# Altium footprint library Footprint.PcbLib: 97 footprints (part 3 of 7)
Each footprint in its own frame and in the unit in brackets; x right, y up, seen from the top. Pads: shape width x height; smd on the part's side, far side on the other; paste and mask are expansions set on the pad; w line width, h text height; cw(c..) or ccw(c..) is an arc to the next point about the centre after c.
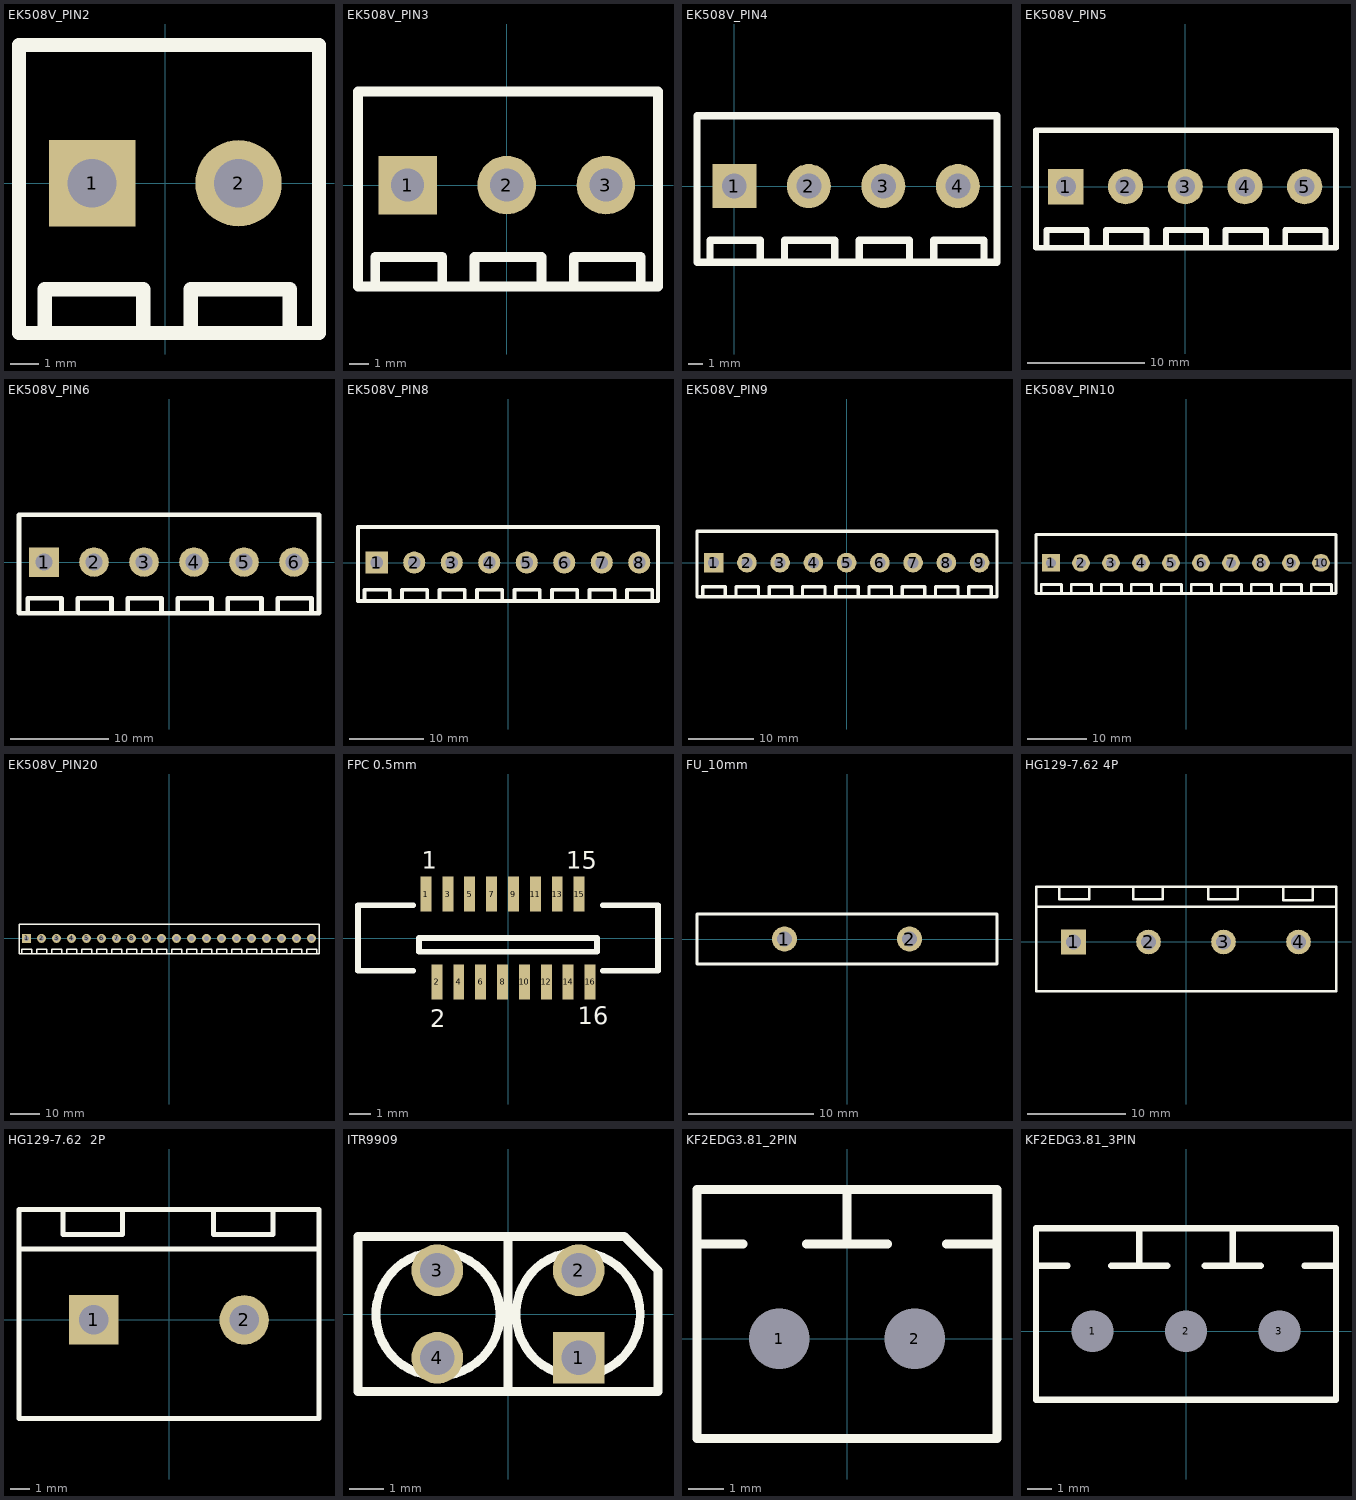
[diagram p2: the footprints below, top view; thin cyan lines are the x and y axes]

## EK508V_PIN2 [mm]
pads (2):
  rect 3x3 hole 1.7: 1(-2.54,0)
  round 3 hole 1.7: 2(2.54,0)
Top Overlay:
  lines w0.5: -4.191,-5.2 -4.191,-3.683 -0.762,-3.683 -0.762,-5.2 ; 0.889,-3.683 4.318,-3.683 ; 0.889,-3.683 0.889,-5.2 0.889,-3.683 ; 0.889,-3.683 4.318,-3.683 ; 4.318,-3.683 4.318,-5.2 4.318,-3.683 ; -5.08,-5.2 -5.08,4.8 5.334,4.8 5.334,-5.2 -5.08,-5.2

## EK508V_PIN3 [mm]
pads (3):
  rect 3x3 hole 1.7: 1(-5.08,0)
  round 3 hole 1.7: 2(0,0) 3(5.08,0)
Top Overlay:
  lines w0.5: -6.731,-5.2 -6.731,-3.683 -3.302,-3.683 -3.302,-5.2 ; -1.651,-3.683 -1.651,-5.2 -1.651,-3.683 ; -1.651,-3.683 1.778,-3.683 ; -1.651,-3.683 1.778,-3.683 ; 1.778,-3.683 1.778,-5.2 1.778,-3.683 ; 3.429,-3.683 3.429,-5.2 3.429,-3.683 ; 3.429,-3.683 6.858,-3.683 ; 3.429,-3.683 6.858,-3.683 ; 6.858,-3.683 6.858,-5.2 6.858,-3.683 ; -7.62,-5.2 7.747,-5.2 7.747,4.8 -7.62,4.8 -7.62,-5.2

## EK508V_PIN4 [mm]
pads (4):
  rect 3x3 hole 1.7: 1(0,0)
  round 3 hole 1.7: 2(5.08,0) 3(10.16,0) 4(15.24,0)
Top Overlay:
  lines w0.5: -1.651,-5.2 -1.651,-3.683 1.778,-3.683 1.778,-5.2 ; 3.429,-3.683 3.429,-5.2 3.429,-3.683 ; 3.429,-3.683 6.858,-3.683 ; 3.429,-3.683 6.858,-3.683 ; 6.858,-3.683 6.858,-5.2 6.858,-3.683 ; 8.509,-3.683 8.509,-5.2 8.509,-3.683 ; 8.509,-3.683 11.938,-3.683 ; 8.509,-3.683 11.938,-3.683 ; 11.938,-3.683 11.938,-5.2 11.938,-3.683 ; 13.589,-3.683 17.018,-3.683 ; 13.589,-3.683 13.589,-5.2 13.589,-3.683 ; 13.589,-3.683 17.018,-3.683 ; 17.018,-3.683 17.018,-5.2 17.018,-3.683 ; -2.54,-5.2 17.907,-5.2 17.907,4.8 -2.54,4.8 -2.54,-5.2

## EK508V_PIN5 [mm]
pads (5):
  rect 3x3 hole 1.7: 1(-10.16,0)
  round 3 hole 1.7: 2(-5.08,0) 3(0,0) 4(5.08,0) 5(10.16,0)
Top Overlay:
  lines w0.5: -11.811,-5.2 -11.811,-3.683 -8.382,-3.683 -8.382,-5.2 ; -6.731,-3.683 -3.302,-3.683 ; -6.731,-3.683 -6.731,-5.2 -6.731,-3.683 ; -6.731,-3.683 -3.302,-3.683 ; -3.302,-3.683 -3.302,-5.2 -3.302,-3.683 ; -1.651,-3.683 -1.651,-5.2 -1.651,-3.683 ; -1.651,-3.683 1.778,-3.683 ; -1.651,-3.683 1.778,-3.683 ; 1.778,-3.683 1.778,-5.2 1.778,-3.683 ; 3.429,-3.683 3.429,-5.2 3.429,-3.683 ; 3.429,-3.683 6.858,-3.683 ; 3.429,-3.683 6.858,-3.683 ; 6.858,-3.683 6.858,-5.2 6.858,-3.683 ; 8.509,-3.683 11.938,-3.683 ; 8.509,-3.683 8.509,-5.2 8.509,-3.683 ; 8.509,-3.683 11.938,-3.683 ; 11.938,-3.683 11.938,-5.2 11.938,-3.683 ; -12.7,-5.2 -12.7,4.8 12.827,4.8 12.827,-5.2 -12.7,-5.2

## EK508V_PIN6 [mm]
pads (6):
  rect 3x3 hole 1.7: 1(-12.7,0)
  round 3 hole 1.7: 2(-7.62,0) 3(-2.54,0) 4(2.54,0) 5(7.62,0) 6(12.7,0)
Top Overlay:
  lines w0.5: -14.351,-5.2 -14.351,-3.683 -10.922,-3.683 -10.922,-5.2 ; -9.271,-3.683 -5.842,-3.683 ; -9.271,-3.683 -9.271,-5.2 -9.271,-3.683 ; -9.271,-3.683 -5.842,-3.683 ; -5.842,-3.683 -5.842,-5.2 -5.842,-3.683 ; -4.191,-3.683 -4.191,-5.2 -4.191,-3.683 ; -4.191,-3.683 -0.762,-3.683 ; -4.191,-3.683 -0.762,-3.683 ; -0.762,-3.683 -0.762,-5.2 -0.762,-3.683 ; 0.889,-3.683 0.889,-5.2 0.889,-3.683 ; 0.889,-3.683 4.318,-3.683 ; 0.889,-3.683 4.318,-3.683 ; 4.318,-3.683 4.318,-5.2 4.318,-3.683 ; 5.969,-3.683 9.398,-3.683 ; 5.969,-3.683 5.969,-5.2 5.969,-3.683 ; 5.969,-3.683 9.398,-3.683 ; 9.398,-3.683 9.398,-5.2 9.398,-3.683 ; 11.049,-3.683 11.049,-5.2 11.049,-3.683 ; 11.049,-3.683 14.478,-3.683 ; 11.049,-3.683 14.478,-3.683 ; 14.478,-3.683 14.478,-5.2 14.478,-3.683 ; -15.24,-5.2 -15.24,4.8 15.24,4.8 15.24,-5.2 -15.24,-5.2

## EK508V_PIN8 [mm]
pads (8):
  rect 3x3 hole 1.7: 1(-17.78,0)
  round 3 hole 1.7: 2(-12.7,0) 3(-7.62,0) 4(-2.54,0) 5(2.54,0) 6(7.62,0) 7(12.7,0) 8(17.78,0)
Top Overlay:
  lines w0.5: -19.431,-5.2 -19.431,-3.683 -16.002,-3.683 -16.002,-5.2 ; -14.351,-3.683 -14.351,-5.2 -14.351,-3.683 ; -14.351,-3.683 -10.922,-3.683 ; -14.351,-3.683 -10.922,-3.683 ; -10.922,-3.683 -10.922,-5.2 -10.922,-3.683 ; -9.271,-3.683 -9.271,-5.2 -9.271,-3.683 ; -9.271,-3.683 -5.842,-3.683 ; -9.271,-3.683 -5.842,-3.683 ; -5.842,-3.683 -5.842,-5.2 -5.842,-3.683 ; -4.191,-3.683 -0.762,-3.683 ; -4.191,-3.683 -4.191,-5.2 -4.191,-3.683 ; -4.191,-3.683 -0.762,-3.683 ; -0.762,-3.683 -0.762,-5.2 -0.762,-3.683 ; 0.889,-3.683 0.889,-5.2 0.889,-3.683 ; 0.889,-3.683 4.318,-3.683 ; 0.889,-3.683 4.318,-3.683 ; 4.318,-3.683 4.318,-5.2 4.318,-3.683 ; 5.969,-3.683 9.398,-3.683 ; 5.969,-3.683 5.969,-5.2 5.969,-3.683 ; 5.969,-3.683 9.398,-3.683 ; 9.398,-3.683 9.398,-5.2 9.398,-3.683 ; 11.049,-3.683 11.049,-5.2 11.049,-3.683 ; 11.049,-3.683 14.478,-3.683 ; 11.049,-3.683 14.478,-3.683 ; 14.478,-3.683 14.478,-5.2 14.478,-3.683 ; 16.129,-3.683 16.129,-5.2 16.129,-3.683 ; 16.129,-3.683 19.558,-3.683 ; 16.129,-3.683 19.558,-3.683 ; 19.558,-3.683 19.558,-5.2 19.558,-3.683 ; -20.32,-5.2 20.32,-5.2 20.32,4.8 -20.32,4.8 -20.32,-5.2

## EK508V_PIN9 [mm]
pads (9):
  rect 3x3 hole 1.7: 1(-20.32,0)
  round 3 hole 1.7: 2(-15.24,0) 3(-10.16,0) 4(-5.08,0) 5(0,0) 6(5.08,0) 7(10.16,0) 8(15.24,0) 9(20.32,0)
Top Overlay:
  lines w0.5: -21.971,-5.2 -21.971,-3.683 -18.542,-3.683 -18.542,-5.2 ; -16.891,-3.683 -13.462,-3.683 ; -16.891,-3.683 -16.891,-5.2 -16.891,-3.683 ; -16.891,-3.683 -13.462,-3.683 ; -13.462,-3.683 -13.462,-5.2 -13.462,-3.683 ; -11.811,-3.683 -11.811,-5.2 -11.811,-3.683 ; -11.811,-3.683 -8.382,-3.683 ; -11.811,-3.683 -8.382,-3.683 ; -8.382,-3.683 -8.382,-5.2 -8.382,-3.683 ; -6.731,-3.683 -6.731,-5.2 -6.731,-3.683 ; -6.731,-3.683 -3.302,-3.683 ; -6.731,-3.683 -3.302,-3.683 ; -3.302,-3.683 -3.302,-5.2 -3.302,-3.683 ; -1.651,-3.683 1.778,-3.683 ; -1.651,-3.683 -1.651,-5.2 -1.651,-3.683 ; -1.651,-3.683 1.778,-3.683 ; 1.778,-3.683 1.778,-5.2 1.778,-3.683 ; 3.429,-3.683 3.429,-5.2 3.429,-3.683 ; 3.429,-3.683 6.858,-3.683 ; 3.429,-3.683 6.858,-3.683 ; 6.858,-3.683 6.858,-5.2 6.858,-3.683 ; 8.509,-3.683 8.509,-5.2 8.509,-3.683 ; 8.509,-3.683 11.938,-3.683 ; 8.509,-3.683 11.938,-3.683 ; 11.938,-3.683 11.938,-5.2 11.938,-3.683 ; 13.589,-5.2 13.589,-3.683 ; 13.589,-5.2 13.589,-3.683 ; 13.589,-5.2 13.589,-3.683 ; 13.589,-5.2 13.589,-3.683 ; 13.589,-3.683 17.018,-3.683 ; 13.589,-3.683 17.018,-3.683 ; 13.589,-3.683 17.018,-3.683 ; 13.589,-3.683 17.018,-3.683 ; 17.018,-5.2 17.018,-3.683 ; 17.018,-5.2 17.018,-3.683 ; 17.018,-5.2 17.018,-3.683 ; 17.018,-5.2 17.018,-3.683 ; 18.669,-3.683 18.669,-5.2 18.669,-3.683 ; 18.669,-3.683 22.098,-3.683 ; 18.669,-3.683 22.098,-3.683 ; 22.098,-3.683 22.098,-5.2 22.098,-3.683 ; -22.86,-5.2 -22.86,4.8 22.987,4.8 22.987,-5.2 -22.86,-5.2

## EK508V_PIN10 [mm]
pads (10):
  rect 3x3 hole 1.7: 1(-22.86,0)
  round 3 hole 1.7: 2(-17.78,0) 3(-12.7,0) 4(-7.62,0) 5(-2.54,0) 6(2.54,0) 7(7.62,0) 8(12.7,0) 9(17.78,0) 10(22.86,0)
Top Overlay:
  lines w0.5: -24.511,-5.2 -24.511,-3.683 -21.082,-3.683 -21.082,-5.2 ; -19.431,-3.683 -19.431,-5.2 -19.431,-3.683 ; -19.431,-3.683 -16.002,-3.683 ; -19.431,-3.683 -16.002,-3.683 ; -16.002,-3.683 -16.002,-5.2 -16.002,-3.683 ; -14.351,-3.683 -14.351,-5.2 -14.351,-3.683 ; -14.351,-3.683 -10.922,-3.683 ; -14.351,-3.683 -10.922,-3.683 ; -10.922,-3.683 -10.922,-5.2 -10.922,-3.683 ; -9.271,-3.683 -5.842,-3.683 ; -9.271,-3.683 -9.271,-5.2 -9.271,-3.683 ; -9.271,-3.683 -5.842,-3.683 ; -5.842,-3.683 -5.842,-5.2 -5.842,-3.683 ; -4.191,-3.683 -4.191,-5.2 -4.191,-3.683 ; -4.191,-3.683 -0.762,-3.683 ; -4.191,-3.683 -0.762,-3.683 ; -0.762,-3.683 -0.762,-5.2 -0.762,-3.683 ; 0.889,-3.683 4.318,-3.683 ; 0.889,-3.683 0.889,-5.2 0.889,-3.683 ; 0.889,-3.683 4.318,-3.683 ; 4.318,-3.683 4.318,-5.2 4.318,-3.683 ; 5.969,-3.683 5.969,-5.2 5.969,-3.683 ; 5.969,-3.683 9.398,-3.683 ; 5.969,-3.683 9.398,-3.683 ; 9.398,-3.683 9.398,-5.2 9.398,-3.683 ; 11.049,-5.2 11.049,-3.683 ; 11.049,-5.2 11.049,-3.683 ; 11.049,-5.2 11.049,-3.683 ; 11.049,-5.2 11.049,-3.683 ; 11.049,-3.683 14.478,-3.683 ; 11.049,-3.683 14.478,-3.683 ; 11.049,-3.683 14.478,-3.683 ; 11.049,-3.683 14.478,-3.683 ; 14.478,-5.2 14.478,-3.683 ; 14.478,-5.2 14.478,-3.683 ; 14.478,-5.2 14.478,-3.683 ; 14.478,-5.2 14.478,-3.683 ; 16.129,-3.683 16.129,-5.2 16.129,-3.683 ; 16.129,-3.683 19.558,-3.683 ; 16.129,-3.683 19.558,-3.683 ; 19.558,-3.683 19.558,-5.2 19.558,-3.683 ; 21.209,-3.683 24.638,-3.683 ; 21.209,-3.683 21.209,-5.2 21.209,-3.683 ; 21.209,-3.683 24.638,-3.683 ; 24.638,-3.683 24.638,-5.2 24.638,-3.683 ; -25.4,-5.2 25.4,-5.2 25.4,4.8 -25.4,4.8 -25.4,-5.2

## EK508V_PIN20 [mm]
pads (20):
  rect 3x3 hole 1.7: 1(-48.26,0)
  round 3 hole 1.7: 2(-43.18,0) 3(-38.1,0) 4(-33.02,0) 5(-27.94,0) 6(-22.86,0) 7(-17.78,0) 8(-12.7,0) 9(-7.62,0) 10(-2.54,0) 11(2.54,0) 12(7.62,0) 13(12.7,0) 14(17.78,0) 15(22.86,0) 16(27.94,0) 17(33.02,0) 18(38.1,0) 19(43.18,0) 20(48.26,0)
Top Overlay:
  lines w0.5: -49.911,-5.2 -49.911,-3.683 -46.482,-3.683 -46.482,-5.2 ; 0.889,-5.2 0.889,-3.683 4.318,-3.683 4.318,-5.2 ; -44.831,-3.683 -44.831,-5.2 -44.831,-3.683 ; -44.831,-3.683 -41.402,-3.683 ; -44.831,-3.683 -41.402,-3.683 ; -41.402,-3.683 -41.402,-5.2 -41.402,-3.683 ; -39.751,-3.683 -39.751,-5.2 -39.751,-3.683 ; -39.751,-3.683 -36.322,-3.683 ; -39.751,-3.683 -36.322,-3.683 ; -36.322,-3.683 -36.322,-5.2 -36.322,-3.683 ; -34.671,-3.683 -31.242,-3.683 ; -34.671,-3.683 -34.671,-5.2 -34.671,-3.683 ; -34.671,-3.683 -31.242,-3.683 ; -31.242,-3.683 -31.242,-5.2 -31.242,-3.683 ; -29.591,-3.683 -29.591,-5.2 -29.591,-3.683 ; -29.591,-3.683 -26.162,-3.683 ; -29.591,-3.683 -26.162,-3.683 ; -26.162,-3.683 -26.162,-5.2 -26.162,-3.683 ; -24.511,-3.683 -21.082,-3.683 ; -24.511,-3.683 -24.511,-5.2 -24.511,-3.683 ; -24.511,-3.683 -21.082,-3.683 ; -21.082,-3.683 -21.082,-5.2 -21.082,-3.683 ; -19.431,-3.683 -19.431,-5.2 -19.431,-3.683 ; -19.431,-3.683 -16.002,-3.683 ; -19.431,-3.683 -16.002,-3.683 ; -16.002,-3.683 -16.002,-5.2 -16.002,-3.683 ; -14.351,-5.2 -14.351,-3.683 ; -14.351,-5.2 -14.351,-3.683 ; -14.351,-5.2 -14.351,-3.683 ; -14.351,-5.2 -14.351,-3.683 ; -14.351,-3.683 -10.922,-3.683 ; -14.351,-3.683 -10.922,-3.683 ; -14.351,-3.683 -10.922,-3.683 ; -14.351,-3.683 -10.922,-3.683 ; -10.922,-5.2 -10.922,-3.683 ; -10.922,-5.2 -10.922,-3.683 ; -10.922,-5.2 -10.922,-3.683 ; -10.922,-5.2 -10.922,-3.683 ; -9.271,-3.683 -9.271,-5.2 -9.271,-3.683 ; -9.271,-3.683 -5.842,-3.683 ; -9.271,-3.683 -5.842,-3.683 ; -5.842,-3.683 -5.842,-5.2 -5.842,-3.683 ; -4.191,-3.683 -0.762,-3.683 ; -4.191,-3.683 -4.191,-5.2 -4.191,-3.683 ; -4.191,-3.683 -0.762,-3.683 ; -0.762,-3.683 -0.762,-5.2 -0.762,-3.683 ; 5.969,-3.683 9.398,-3.683 ; 5.969,-3.683 5.969,-5.2 5.969,-3.683 ; 5.969,-3.683 9.398,-3.683 ; 9.398,-3.683 9.398,-5.2 9.398,-3.683 ; 11.049,-3.683 11.049,-5.2 11.049,-3.683 ; 11.049,-3.683 14.478,-3.683 ; 11.049,-3.683 14.478,-3.683 ; 14.478,-3.683 14.478,-5.2 14.478,-3.683 ; 16.129,-3.683 16.129,-5.2 16.129,-3.683 ; 16.129,-3.683 19.558,-3.683 ; 16.129,-3.683 19.558,-3.683 ; 19.558,-3.683 19.558,-5.2 19.558,-3.683 ; 21.209,-3.683 24.638,-3.683 ; 21.209,-3.683 21.209,-5.2 21.209,-3.683 ; 21.209,-3.683 24.638,-3.683 ; 24.638,-3.683 24.638,-5.2 24.638,-3.683 ; 26.289,-3.683 26.289,-5.2 26.289,-3.683 ; 26.289,-3.683 29.718,-3.683 ; 26.289,-3.683 29.718,-3.683 ; 29.718,-3.683 29.718,-5.2 29.718,-3.683 ; 31.369,-3.683 31.369,-5.2 31.369,-3.683 ; 31.369,-3.683 34.798,-3.683 ; 31.369,-3.683 34.798,-3.683 ; 34.798,-3.683 34.798,-5.2 34.798,-3.683 ; 36.449,-5.2 36.449,-3.683 ; 36.449,-5.2 36.449,-3.683 ; 36.449,-5.2 36.449,-3.683 ; 36.449,-5.2 36.449,-3.683 ; 36.449,-3.683 39.878,-3.683 ; 36.449,-3.683 39.878,-3.683 ; 36.449,-3.683 39.878,-3.683 ; 36.449,-3.683 39.878,-3.683 ; 39.878,-5.2 39.878,-3.683 ; 39.878,-5.2 39.878,-3.683 ; 39.878,-5.2 39.878,-3.683 ; 39.878,-5.2 39.878,-3.683 ; 41.529,-3.683 41.529,-5.2 41.529,-3.683 ; 41.529,-3.683 44.958,-3.683 ; 41.529,-3.683 44.958,-3.683 ; 44.958,-3.683 44.958,-5.2 44.958,-3.683 ; 46.609,-3.683 46.609,-5.2 46.609,-3.683 ; 46.609,-3.683 50.038,-3.683 ; 46.609,-3.683 50.038,-3.683 ; 50.038,-3.683 50.038,-5.2 50.038,-3.683 ; -50.8,-5.2 0,-5.2 50.8,-5.2 50.8,4.8 -50.8,4.8 -50.8,-5.2

## FPC 0.5mm [mm] "立式贴片"
pads (16):
  rect 0.5x1.6 smd: 1(-3.75,2) 2(-3.25,-2) 3(-2.75,2) 4(-2.25,-2) 5(-1.75,2) 6(-1.25,-2) 7(-0.75,2) 8(-0.25,-2) 9(0.25,2) 10(0.75,-2) 11(1.25,2) 12(1.75,-2) 13(2.25,2) 14(2.75,-2) 15(3.25,2) 16(3.75,-2)
Top Overlay:
  lines w0.254: -4.318,-1.5 -6.85,-1.5 -6.85,1.5 -4.318,1.5 ; 4.318,-1.5 6.85,-1.5 ; 4.318,1.5 6.85,1.5 6.85,-1.476 ; -4.064,-0.635 4.064,-0.635 4.064,0 -4.064,0 -4.064,-0.635
  text "15" at 2.667,3.175 h0.8
  text "16" at 3.175,-3.937 h0.8
  text "2" at -3.556,-4.064 h0.8
  text "1" at -3.937,3.175 h0.8

## FU_10mm [mm]
pads (2):
  round 2 hole 1.2: 1(-5,0) 2(5,0)
Top Overlay:
  lines w0.254: -12,-2 -12,2 12,2 12,-2 -12,-2

## HG129-7.62 4P [mm]
pads (4):
  rect 2.5x2.5 hole 1.5: 1(-11.43,0)
  round 2.5 hole 1.5: 2(-3.81,0) 3(3.81,0) 4(11.43,0)
Top Overlay:
  lines w0.254: -15.24,3.6 15.24,3.6 ; -12.853,4.318 -12.853,5.6 ; -12.753,4.318 -9.853,4.318 -9.853,5.6 ; -5.36,4.318 -5.36,5.6 ; -5.26,4.318 -2.36,4.318 -2.36,5.6 ; 2.26,4.318 2.26,5.6 ; 2.36,4.318 5.26,4.318 5.26,5.6 ; 9.88,4.235 9.88,5.517 ; 9.98,4.235 12.88,4.235 12.88,5.517 ; -15.24,-5 -15.24,5.6 15.24,5.6 15.24,-5 -15.24,-5

## HG129-7.62  2P [mm]
pads (2):
  rect 2.5x2.5 hole 1.5: 1(-3.81,0)
  round 2.5 hole 1.5: 2(3.81,0)
Top Overlay:
  lines w0.254: -7.6,3.6 7.6,3.6 ; -5.36,4.318 -5.36,5.6 ; -5.26,4.318 -2.36,4.318 -2.36,5.6 ; 2.26,4.318 2.26,5.6 ; 2.36,4.318 5.26,4.318 5.26,5.6 ; -7.6,-5 7.6,-5 7.6,5.6 -7.6,5.6 -7.6,-5

## ITR9909 [mm]
pads (4):
  rect 1.5x1.5 hole 1: 1(2.05,-1.27)
  round 1.5 hole 1: 2(2.05,1.27) 3(-2.05,1.27) 4(-2.05,-1.27)
Top Overlay:
  circle w0.254: c-2.032,0 r1.8
  circle w0.254: c2.032,0 r1.8
  lines w0.254: 0,-2.25 0,2.25 ; 3.429,2.191 4.35,1.27 ; 4.35,1.27 4.35,-2.25 -4.35,-2.25 -4.35,2.25 3.37,2.25 4.35,1.27

## KF2EDG3.81_2PIN [mm]
pads (2):
  rect 0.85x0.55 hole 1.7: 1(-1.905,0)
  oval 0.85x0.55 hole 1.7: 2(1.905,0)
Top Overlay:
  lines w0.254: -4.21,2.667 -2.921,2.667 ; -1.143,2.667 1.143,2.667 ; 0,2.667 0,4.2 ; 2.794,2.667 4.21,2.667 ; -4.21,-2.8 -4.21,4.2 4.21,4.2 4.21,-2.8 -4.21,-2.8

## KF2EDG3.81_3PIN [mm]
pads (3):
  rect 0.85x0.55 hole 1.7: 1(-3.81,0)
  oval 0.85x0.55 hole 1.7: 2(0,0) 3(3.81,0)
Top Overlay:
  lines w0.254: -6.115,2.667 -4.826,2.667 ; -3.048,2.667 -0.762,2.667 ; -1.905,2.667 -1.905,4.2 ; 0.762,2.667 3.048,2.667 ; 1.905,2.667 1.905,4.2 ; 4.826,2.667 6.115,2.667 ; -6.115,-2.8 -6.115,4.2 6.115,4.2 6.115,-2.8 -6.115,-2.8